# EAGLE library part MTOP-6 (library con-amp)
AMP CONNECTOR
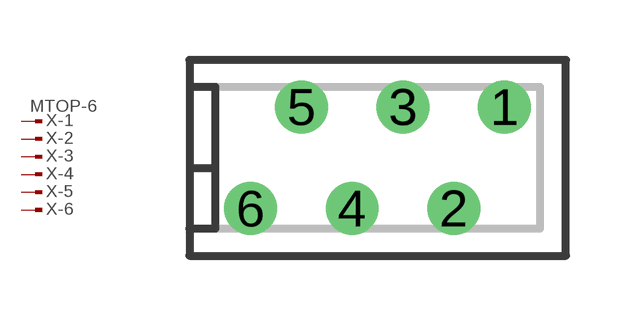
[diagram p108: symbol with the pads of MTOP-6; footprint MTOP-6]

Designator prefix X; gates -1=PIN-MV -2=PIN-M -3=PIN-M -4=PIN-M -5=PIN-M -6=PIN-M

## MTOP-6  [MTOP-6]
1  -1:1  pas
2  -2:1  pas
3  -3:1  pas
4  -4:1  pas
5  -5:1  pas
6  -6:1  pas

## Footprint MTOP-6 (pad centres in mm)
AMP CONNECTOR
drill 0.813 round: 1 3.175,1.27; 2 1.905,-1.27; 3 0.635,1.27; 4 -0.635,-1.27; 5 -1.905,1.27; 6 -3.175,-1.27